# Altium footprint library buttons.PcbLib: 1 footprints
Each footprint in its own frame and in the unit in brackets; x right, y up, seen from the top. Pads: shape width x height; smd on the part's side, far side on the other; paste and mask are expansions set on the pad; w line width, h text height; cw(c..) or ccw(c..) is an arc to the next point about the centre after c.
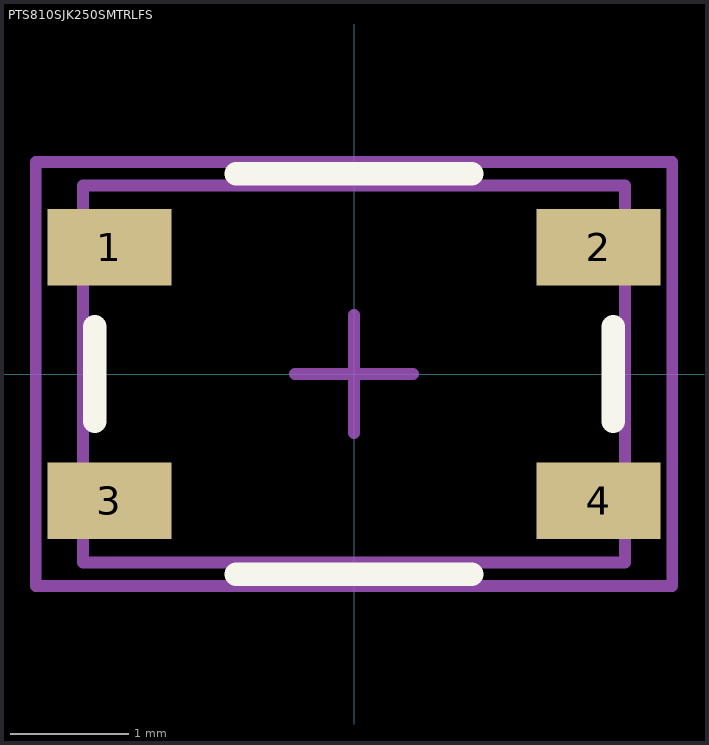
[diagram p0: the footprint, top view; thin cyan lines are the x and y axes]

## PTS810SJK250SMTRLFS [mm] "Tactile Switch SPST-NO Top Actuated Surface Mount"
height 2.5
pads (4):
  rect 1.05x0.65 smd: 1(-2.075,1.075) 2(2.075,1.075) 3(-2.075,-1.075) 4(2.075,-1.075)
Top Overlay:
  lines w0.2: -2.2,-0.4 -2.2,0.4 ; -1,-1.7 1,-1.7 ; -1,1.7 1,1.7 ; 2.2,-0.4 2.2,0.4
  text ".ButtonName" at -3.837,2.474 h2
Top Assembly:
  lines w0.1: -2.3,-1.6 2.3,-1.6 2.3,1.6 -2.3,1.6 -2.3,-1.6
Top Component Center:
  lines w0.1: -0.5,0 0.5,0 ; 0,-0.5 0,0.5
Top Component Outline:
  lines w0.1: -2.3,-1.6 2.3,-1.6 2.3,1.6 -2.3,1.6 -2.3,-1.6
Top Courtyard:
  lines w0.1: -2.7,-1.8 -2.7,1.8 2.7,1.8 2.7,-1.8 -2.7,-1.8
Top Designator:
  text "''.Designator''" at 0,0 h2.5
Top Value:
  text "''.Comment''" at 0,0 h2.5
3D body "PTS810SJK250SMTRLFS.STEP": height 2.7, standoff 0, extent -2.3,-1.6 2.3,1.6